# Altium schematic symbol library BQ25750RRVR.SchLib: 1 symbol
Pins are listed as number, name and electrical type; pins without a type are passive.

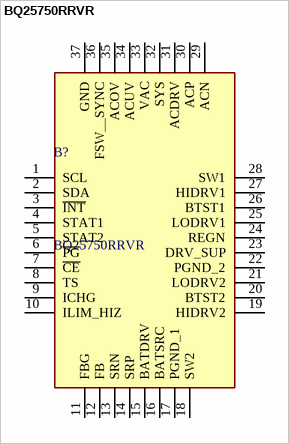
[diagram p0: symbol BQ25750RRVR]

## BQ25750RRVR
designator B?
Battery Management BQ25750RRVR; Manufacturer_Name: Texas Instruments; Geometry.Height: 1mm; Mouser Part Number: 595-BQ25750RRVR; Mouser Price/Stock: https://www.mouser.co.uk/ProductDetail/Texas-Instruments/BQ25750RRVR?qs=mELouGlnn3eHQxcPQTl5Pg%3D%3D; Manufacturer_Part_Number: BQ25750RRVR; Datasheet Link: https://www.ti.com/lit/ds/symlink/bq25750.pdf?ts=1706776852121&ref_url=https%253A%252F%252Fwww.ti.com%252Fproduct%252FBQ25750
footprint QFN50P500X600X100-37N-D
pins: 1 SCL, 2 SDA, 3 ~{INT}, 4 STAT1, 5 STAT2, 6 ~{PG}, 7 ~{CE}, 8 TS, 9 ICHG, 10 ILIM_HIZ, 11 FBG, 12 FB, 13 SRN, 14 SRP, 15 BATDRV, 16 BATSRC, 17 PGND_1, 18 SW2, 19 HIDRV2, 20 BTST2, 21 LODRV2, 22 PGND_2, 23 DRV_SUP, 24 REGN, 25 LODRV1, 26 BTST1, 27 HIDRV1, 28 SW1, 29 ACN, 30 ACP, 31 ACDRV, 32 SYS, 33 VAC, 34 ACUV, 35 ACOV, 36 FSW__SYNC, 37 GND